# EAGLE library part HEADER-2X09 (library Header and Connector)
Header - 2X09
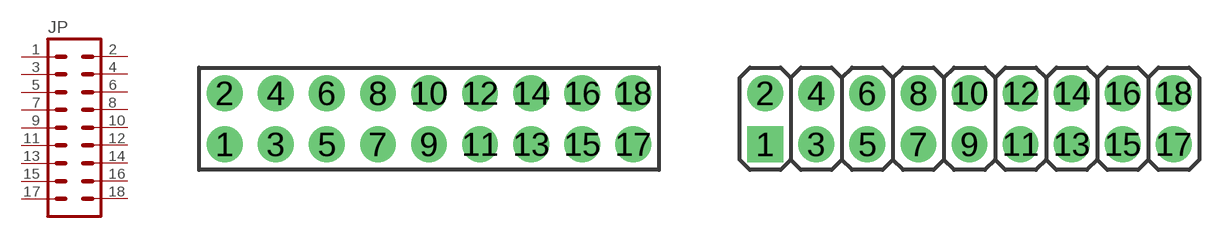
[diagram p14: symbol with the pads of HDR-F2X09; footprints HDR-F2X09, HDR-M2X09]

Designator prefix JP

## HEADER-2X09_(FEMALE) (CYTRON-PC: CN-PH-F240S; DESC: Female Header - 2x40 Ways; VALUE: 9/40 Ways)  [HDR-F2X09]
1  1  pas
2  2  pas
3  3  pas
4  4  pas
5  5  pas
6  6  pas
7  7  pas
8  8  pas
9  9  pas
10  10  pas
11  11  pas
12  12  pas
13  13  pas
14  14  pas
15  15  pas
16  16  pas
17  17  pas
18  18  pas

## HEADER-2X09_(MALE) (CYTRON-PC: CN-PH-M240S; DESC: Male Header - 2x40 Ways; VALUE: 9/40 Ways)  [HDR-M2X09]
Pads as for HDR-F2X09

## Footprint HDR-F2X09 (pad centres in mm)
Female Header - 2X09
drill 1.016 pad 1.778: 1 0,0; 2 0,2.54; 3 2.54,0; 4 2.54,2.54; 5 5.08,0; 6 5.08,2.54; 7 7.62,0; 8 7.62,2.54; 9 10.16,0; 10 10.16,2.54; 11 12.7,0; 12 12.7,2.54; 13 15.24,0; 14 15.24,2.54; 15 17.78,0; 16 17.78,2.54; 17 20.32,0; 18 20.32,2.54

## Footprint HDR-M2X09 (pad centres in mm)
Male Header - 2X9
drill 1.016 pad 1.778 square: 1 0,0
drill 1.016 pad 1.778: 2 0,2.54; 3 2.54,0; 4 2.54,2.54; 5 5.08,0; 6 5.08,2.54; 7 7.62,0; 8 7.62,2.54; 9 10.16,0; 10 10.16,2.54; 11 12.7,0; 12 12.7,2.54; 13 15.24,0; 14 15.24,2.54; 15 17.78,0; 16 17.78,2.54; 17 20.32,0; 18 20.32,2.54